# Altium footprint library thermawick.PcbLib: 6 footprints
Each footprint in its own frame and in the unit in brackets; x right, y up, seen from the top. Pads: shape width x height; smd on the part's side, far side on the other; paste and mask are expansions set on the pad; w line width, h text height; cw(c..) or ccw(c..) is an arc to the next point about the centre after c.
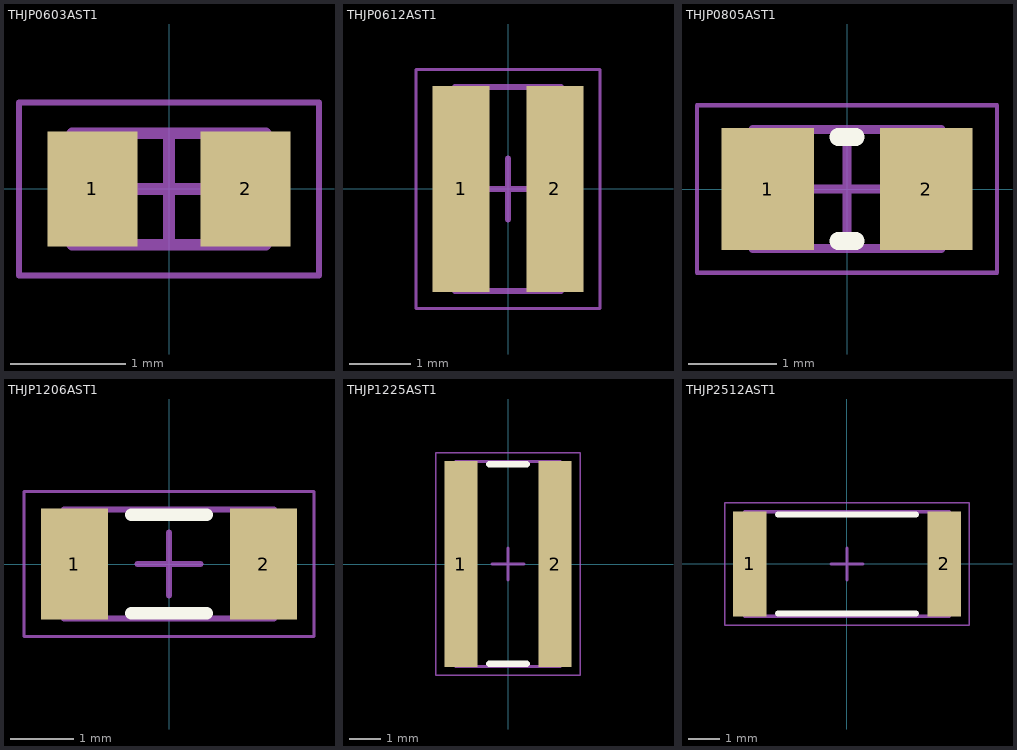
[diagram p0: the footprints below, top view; thin cyan lines are the x and y axes]

## THJP0603AST1 [mm] "Chip Inductor, 2-Leads, Body 1.55x0.84mm, IPC Medium Density"
height 0.89
pads (2):
  rect 0.78x1 smd: 1(-0.665,0) 2(0.665,0)
Mechanical 13:
  lines w0.1: -0.84,-0.485 0.84,-0.485 0.84,0.485 -0.84,0.485 -0.84,-0.485
Mechanical 15:
  lines w0.05: -1.3,-0.75 1.3,-0.75 1.3,0.75 -1.3,0.75 -1.3,-0.75
  lines w0.1: -0.485,0 0.485,0 ; 0,-0.485 0,0.485
3D body "INDC1508X09N.step": height 0.89, standoff 0, extent -0.84,-0.485 0.84,0.485

## THJP0612AST1 [mm] "Chip Inductor, 2-Leads, Body 1.60x3.20mm, IPC Medium Density"
height 0.89
pads (2):
  rect 0.93x3.36 smd: 1(-0.765,0) 2(0.765,0)
Mechanical 13:
  lines w0.1: -0.865,-1.665 0.865,-1.665 0.865,1.665 -0.865,1.665 -0.865,-1.665
Mechanical 15:
  lines w0.05: -1.5,-1.95 1.5,-1.95 1.5,1.95 -1.5,1.95 -1.5,-1.95
  lines w0.1: -0.5,0 0.5,0 ; 0,-0.5 0,0.5
3D body "INDC1632X09N.step": height 0.89, standoff 0, extent -0.865,-1.665 0.865,1.665

## THJP0805AST1 [mm] "Chip Inductor, 2-Leads, Body 2.01x1.22mm, IPC Medium Density"
height 0.89
pads (2):
  rect 1.05x1.38 smd: 1(-0.9,0) 2(0.9,0)
Top Overlay:
  lines w0.2: -0.1,-0.59 0.1,-0.59 ; -0.1,0.59 0.1,0.59
Mechanical 13:
  lines w0.1: -1.065,-0.675 1.065,-0.675 1.065,0.675 -1.065,0.675 -1.065,-0.675
Mechanical 15:
  lines w0.05: -1.7,-0.95 1.7,-0.95 1.7,0.95 -1.7,0.95 -1.7,-0.95
  lines w0.1: -0.5,0 0.5,0 ; 0,-0.5 0,0.5
3D body "INDC2012X09N.step": height 0.89, standoff 0, extent -1.065,-0.675 1.065,0.675

## THJP1206AST1 [mm] "Chip Inductor, 2-Leads, Body 3.20x1.60mm, IPC Medium Density"
height 0.89
pads (2):
  rect 1.06x1.76 smd: 1(-1.5,0) 2(1.5,0)
Top Overlay:
  lines w0.2: -0.6,-0.78 0.6,-0.78 ; -0.6,0.78 0.6,0.78
Mechanical 13:
  lines w0.1: -1.665,-0.865 1.665,-0.865 1.665,0.865 -1.665,0.865 -1.665,-0.865
Mechanical 15:
  lines w0.05: -2.3,-1.15 2.3,-1.15 2.3,1.15 -2.3,1.15 -2.3,-1.15
  lines w0.1: -0.5,0 0.5,0 ; 0,-0.5 0,0.5
3D body "INDC3216X09N.step": height 0.89, standoff 0, extent -1.665,-0.865 1.665,0.865

## THJP1225AST1 [mm] "Chip Inductor, 2-Leads, Body 3.20x6.40mm, IPC Medium Density"
height 0.89
pads (2):
  rect 1.06x6.56 smd: 1(-1.5,0) 2(1.5,0)
Top Overlay:
  lines w0.2: -0.6,-3.18 0.6,-3.18 ; -0.6,3.18 0.6,3.18
Mechanical 13:
  lines w0.1: -1.665,-3.265 1.665,-3.265 1.665,3.265 -1.665,3.265 -1.665,-3.265
Mechanical 15:
  lines w0.05: -2.3,-3.55 2.3,-3.55 2.3,3.55 -2.3,3.55 -2.3,-3.55
  lines w0.1: -0.5,0 0.5,0 ; 0,-0.5 0,0.5
3D body "INDC3264X09N.step": height 0.89, standoff 0, extent -1.665,-3.265 1.665,3.265

## THJP2512AST1 [mm] "Chip Inductor, 2-Leads, Body 6.40x3.20mm, IPC Medium Density"
height 0.89
pads (2):
  rect 1.06x3.36 smd: 1(-3.1,0) 2(3.1,0)
Top Overlay:
  lines w0.2: -2.2,-1.58 2.2,-1.58 ; -2.2,1.58 2.2,1.58
Mechanical 13:
  lines w0.1: -3.265,-1.665 3.265,-1.665 3.265,1.665 -3.265,1.665 -3.265,-1.665
Mechanical 15:
  lines w0.05: -3.9,-1.95 3.9,-1.95 3.9,1.95 -3.9,1.95 -3.9,-1.95
  lines w0.1: -0.5,0 0.5,0 ; 0,-0.5 0,0.5
3D body "INDC6432X09N.step": height 0.89, standoff 0, extent -3.265,-1.665 3.265,1.665